# EAGLE library part RJ45-RJHSE-5080 (library dpx-con-CUSTOM)
Modular Connectors / Ethernet Connectors R/A RJ45 NONSHIELDED 8 CONT NO LEDS Source: Datasheet
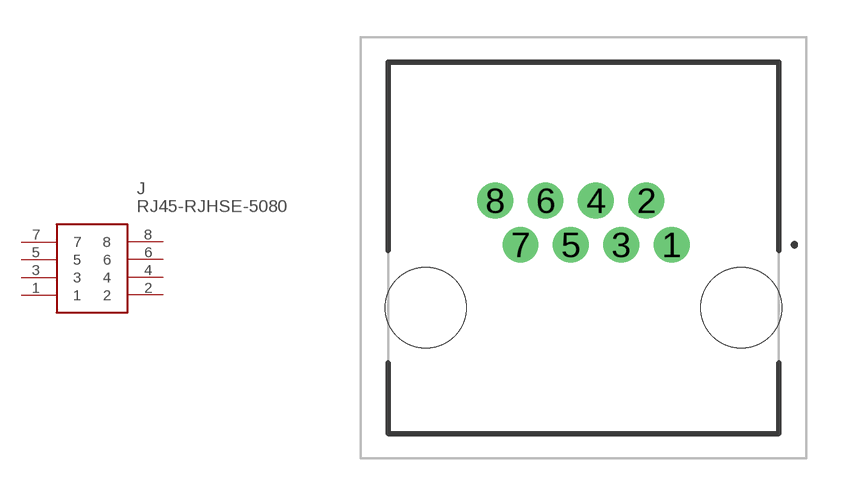
[diagram p15: symbol with the pads of RJ45-AMP-RJHSE5080; footprint RJ45-AMP-RJHSE5080]

Designator prefix J

## RJ45-RJHSE-5080 (DESCRIPTION: Modular Connectors / Ethernet Connectors R/A RJ45 NONSHIELDED 8 CONT NO LEDS; HEIGHT: 13.41mm; MANUFACTURER_NAME: Amphenol; MANUFACTURER_PART_NUMBER: RJHSE-5080; MOUSER_PART_NUMBER: 523-RJHSE-5080; MOUSER_PRICE-STOCK: https://www.mouser.co.uk/ProductDetail/Amphenol-Commercial-Products/RJHSE-5080?qs=45ZVNqY9IiK7WwaeGAp0Ag%3D%3D)  [RJ45-AMP-RJHSE5080]
1  1
2  2
3  3
4  4
5  5
6  6
7  7
8  8

## Footprint RJ45-AMP-RJHSE5080 (pad centres in mm)
RJHSE-5080-1
drill 0.89 pad 1.446: 1 0,0; 2 -1.02,1.78; 3 -2.03,0; 4 -3.05,1.78; 5 -4.06,0; 6 -5.08,1.78; 7 -6.09,0; 8 -7.11,1.78
hole 3.25 at 2.8,-2.54
hole 3.25 at -9.9,-2.54